# Altium schematic symbol library RAC05-12SK.SchLib: 1 symbol
Pins are listed as number, name and electrical type; pins without a type are passive.

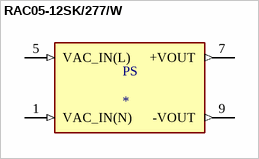
[diagram p0: symbol RAC05-12SK/277/W]

## RAC05-12SK/277/W
designator PS
5W AC/DC-Converter 'POWERLINE' W 4kV reg; MP: RAC05-12SK/277/W; MF: Recom Power; SnapEDA_Link: https://www.snapeda.com/parts/RAC05-12SK/277/W/Recom%20Power/view-part/3227993/?ref=snap; Price: None; Availability: Unavailable; Value: *; Package: Recom Power
footprint CONV_RAC05-12SK/277/W
pins: 1 VAC_IN(N) (in), 5 VAC_IN(L) (in), 7 +VOUT (out), 9 -VOUT (out)